# Altium footprint library samtec-ftr.PcbLib: 3 footprints
Each footprint in its own frame and in the unit in brackets; x right, y up, seen from the top. Pads: shape width x height; smd on the part's side, far side on the other; paste and mask are expansions set on the pad; w line width, h text height; cw(c..) or ccw(c..) is an arc to the next point about the centre after c.
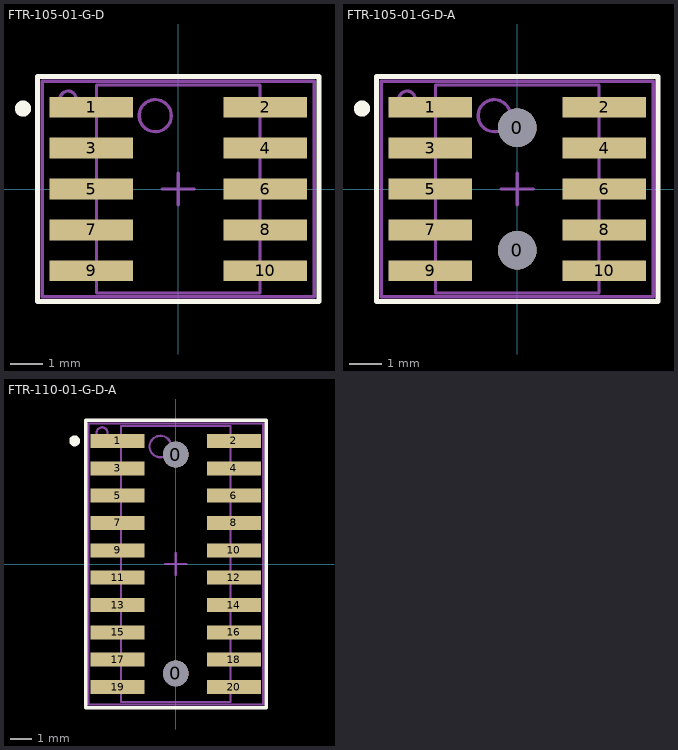
[diagram p0: the footprints below, top view; thin cyan lines are the x and y axes]

## FTR-105-01-G-D [mm] "SAMTEC HEADER SMD 1.27mm x 2.54mm 2x10"
height 3.2
pads (10):
  rect 2.6x0.65 smd: 1(-2.7,2.54) 2(2.7,2.54) 3(-2.7,1.27) 4(2.7,1.27) 5(-2.7,0) 6(2.7,0) 7(-2.7,-1.27) 8(2.7,-1.27) 9(-2.7,-2.54) 10(2.7,-2.54)
Top Overlay:
  circle w0.25: c-4.825,2.5 r0.125
  lines w0.16: -4.375,-3.5 4.375,-3.5 4.375,3.5 -4.375,3.5 -4.375,-3.5
Mechanical 13:
  circle w0.1: c-0.715,2.28 r0.5
  lines w0.1: -0.5,0 0.5,0 ; 0,-0.5 0,0.5 ; -2.54,-3.23 2.54,-3.23 2.54,3.23 -2.54,3.23 -2.54,-3.23
Mechanical 15:
  circle w0.1: c-3.426,2.794 r0.251
  lines w0.1: -4.225,-3.35 4.225,-3.35 4.225,3.35 -4.225,3.35 -4.225,-3.35
  text ".Designator" at 0.127,-2.921 h0.5
3D body: height 9.65, standoff 0, extent -3.759,-3.175 3.759,3.175

## FTR-105-01-G-D-A [mm] "SAMTEC HEADER SMD 1.27mm x 2.54mm 2x10"
height 3.2
pads (12):
  round 1.194 hole 1.194 unplated: 0(0,-1.905) 0(0,1.905)
  rect 2.6x0.65 smd: 1(-2.7,2.54) 2(2.7,2.54) 3(-2.7,1.27) 4(2.7,1.27) 5(-2.7,0) 6(2.7,0) 7(-2.7,-1.27) 8(2.7,-1.27) 9(-2.7,-2.54) 10(2.7,-2.54)
Top Overlay:
  circle w0.25: c-4.825,2.5 r0.125
  lines w0.16: -4.375,-3.5 4.375,-3.5 4.375,3.5 -4.375,3.5 -4.375,-3.5
Mechanical 13:
  circle w0.1: c-0.715,2.28 r0.5
  lines w0.1: -0.5,0 0.5,0 ; 0,-0.5 0,0.5 ; -2.54,-3.23 2.54,-3.23 2.54,3.23 -2.54,3.23 -2.54,-3.23
Mechanical 15:
  circle w0.1: c-3.426,2.794 r0.251
  lines w0.1: -4.225,-3.35 4.225,-3.35 4.225,3.35 -4.225,3.35 -4.225,-3.35
  text ".Designator" at 0.127,-2.921 h0.5
3D body: height 9.65, standoff -1.02, extent -3.759,-3.175 3.759,3.175

## FTR-110-01-G-D-A [mm] "SAMTEC HEADER SMD 1.27mm x 2.54mm 2x10"
height 3.2
pads (22):
  round 1.194 hole 1.194 unplated: 0(0,-5.08) 0(0,5.08)
  rect 2.5x0.65 smd: 1(-2.7,5.715) 2(2.7,5.715) 3(-2.7,4.445) 4(2.7,4.445) 5(-2.7,3.175) 6(2.7,3.175) 7(-2.7,1.905) 8(2.7,1.905) 9(-2.7,0.635) 10(2.7,0.635) 11(-2.7,-0.635) 12(2.7,-0.635) 13(-2.7,-1.905) 14(2.7,-1.905) 15(-2.7,-3.175) 16(2.7,-3.175) 17(-2.7,-4.445) 18(2.7,-4.445) 19(-2.7,-5.715) 20(2.7,-5.715)
Top Overlay:
  circle w0.25: c-4.697,5.715 r0.125
  lines w0.16: -4.191,-6.67 4.191,-6.67 4.191,6.675 -4.191,6.675 -4.191,-6.67
Mechanical 13:
  circle w0.1: c-0.715,5.455 r0.5
  lines w0.1: -2.54,-6.4 2.54,-6.4 2.54,6.405 -2.54,6.405 -2.54,-6.4
  text ".Designator" at 0.15,-1.65 h0.5
Mechanical 15:
  circle w0.1: c-3.426,6.096 r0.251
  lines w0.1: -0.5,0 0.5,0 ; 0,-0.5 0,0.5 ; -4.064,-6.52 4.064,-6.52 4.064,6.525 -4.064,6.525 -4.064,-6.52
3D body: height 6.98, standoff 0, extent -3.759,-6.35 3.759,6.35